# Altium footprint library FUSC4632X85N.PcbLib: 1 footprints
Each footprint in its own frame and in the unit in brackets; x right, y up, seen from the top. Pads: shape width x height; smd on the part's side, far side on the other; paste and mask are expansions set on the pad; w line width, h text height; cw(c..) or ccw(c..) is an arc to the next point about the centre after c.
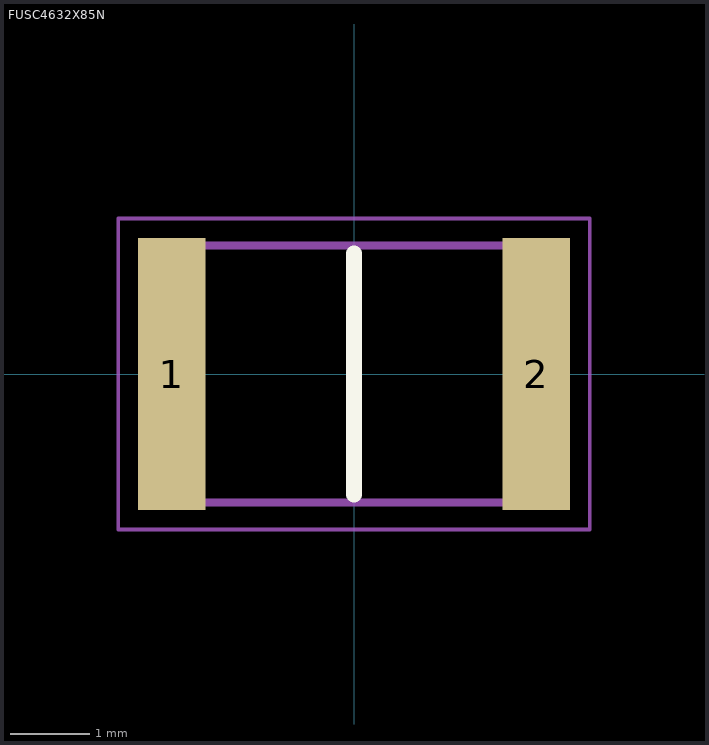
[diagram p0: the footprint, top view; thin cyan lines are the x and y axes]

## FUSC4632X85N [mm]
pads (2):
  rect 0.85x3.43 smd: 1(-2.3,0) 2(2.3,0)
L26-Silk Screen Top (Multiple PADS layers...):
  lines w0.2: 0,-1.52 0,1.52
L15 (Multiple PADS layers...):
  lines w0.1: -2.275,-1.62 2.275,-1.62 2.275,1.62 -2.275,1.62 -2.275,-1.62
L20:
  lines w0.05: -2.975,-1.965 2.975,-1.965 2.975,1.965 -2.975,1.965 -2.975,-1.965
3D body "fusegood.STEP": height 0.54, standoff -0.14, extent -2.535,-1.649 2.535,1.651
3D body: height 0.4, standoff 0, extent -0.737,-3.2 -0.737,-3.2